# Altium schematic symbol library MPBoard.SchLib: 77 symbols
Pins are listed as number, name and electrical type; pins without a type are passive.

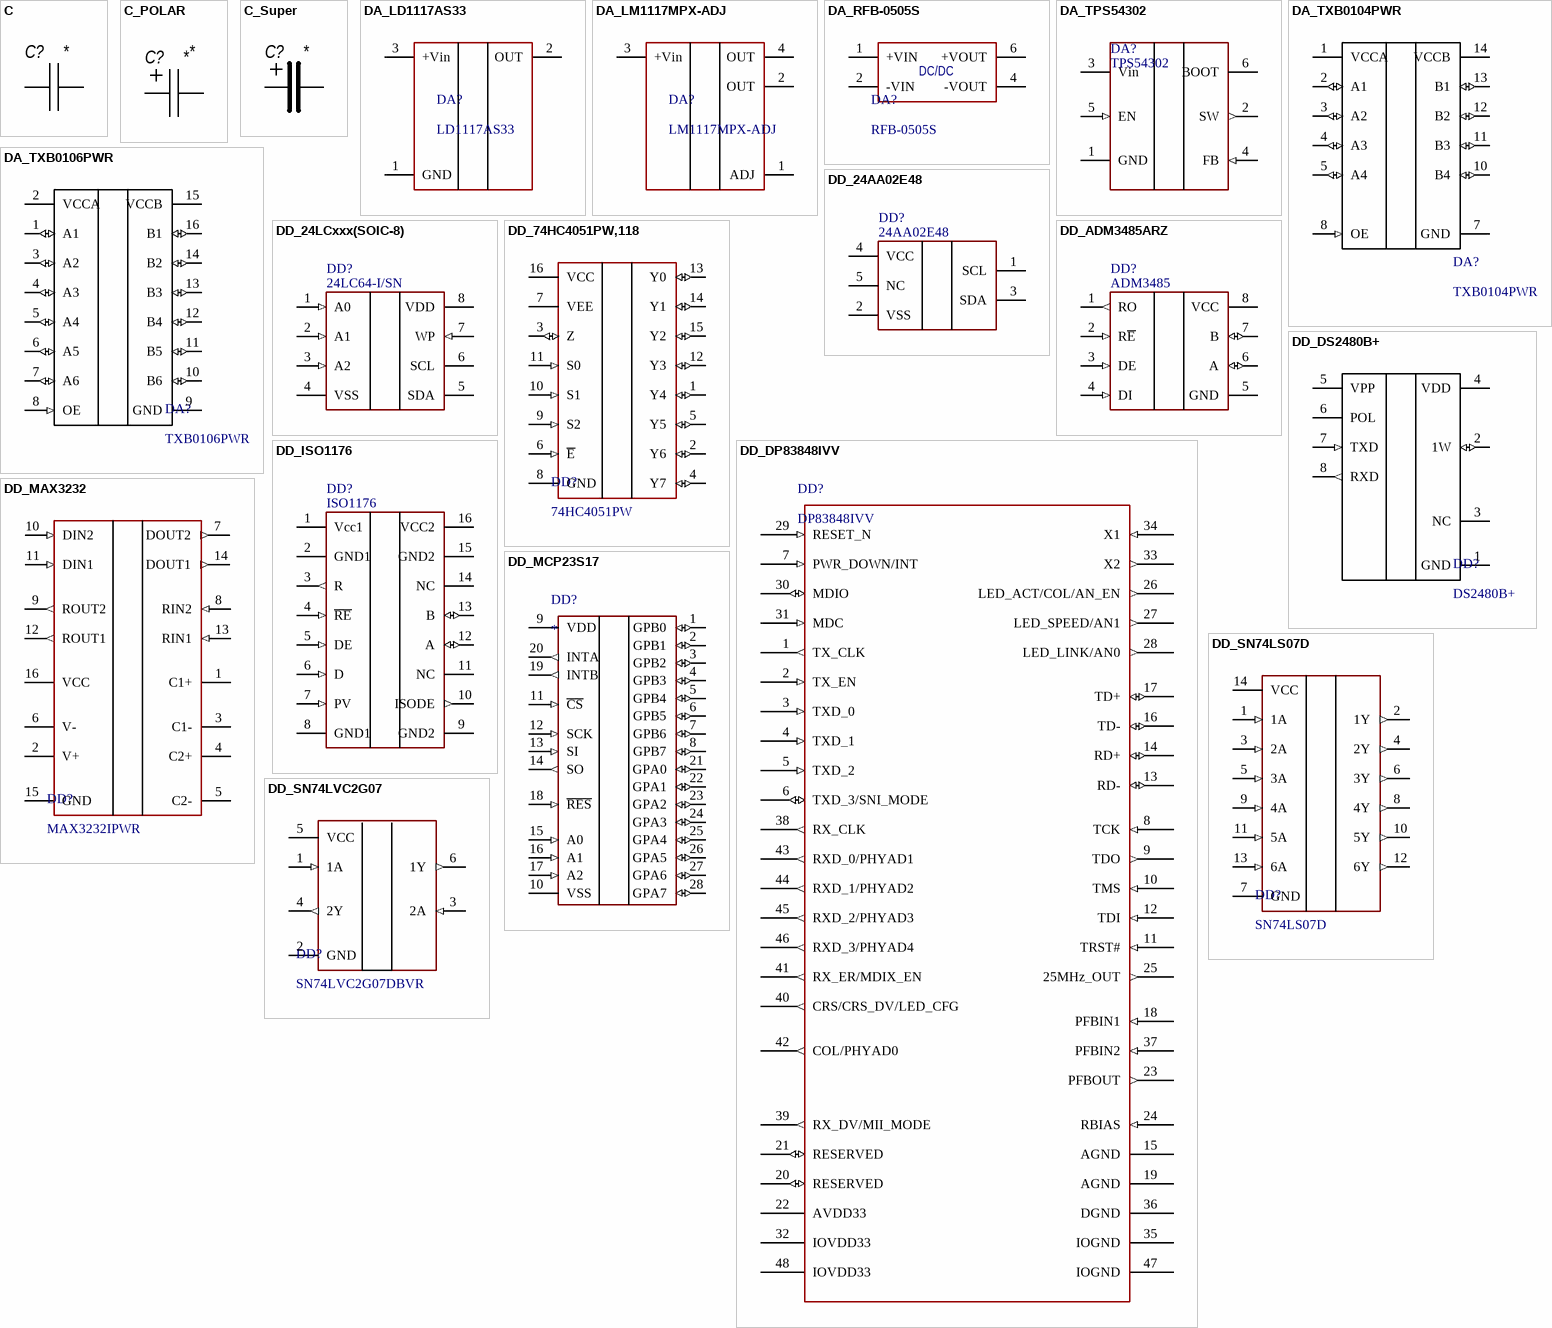
[diagram p0: symbols C to DD_SN74LVC2G07]

## C
designator C?
Конденсатор; ValueDescription: Конденсатор * * * * *; Dielectric: *; Manufacturer: *; Package: *; Tolerance: *; Value: *; ManufacturerPartNumber: *; HelpURL: *; Voltage: *; IPSPartNumber: *; NameRUS: Конденсатор
footprint CAPC0805_H1.0_L (Chip Capacitor, 2-Leads, Body 2,00x1,25mm, IPC High Density)
footprint CAPC0805_H1.0_M (Chip Capacitor, 2-Leads, Body 2,00x1,25mm, IPC Low Density)
footprint CAPC0805_H1.0_N (Chip Capacitor, 2-Leads, Body 2,00x1,25mm, IPC Medium Density)
footprint CAPC1206_H1.2_L (Chip Capacitor, 2-Leads, Body 3,20x1,60mm, IPC High Density)
footprint CAPC1206_H1.2_M (Chip Capacitor, 2-Leads, Body 3,20x1,60mm, IPC Low Density)
footprint CAPC1206_H1.2_N (Chip Capacitor, 2-Leads, Body 3,20x1,60mm, IPC Medium Density)
pins: 1, 2

## C_POLAR
designator C?
Конденсатор полярный; ValueDescription: Конденсатор * * * *; Manufacturer: *; Package: *; Tolerance: *; Value: *; ManufacturerPartNumber: *; HelpURL: *; IPSPartNumber: *; NameRUS: Конденсатор; Voltage: *
footprint CAPTAN_D_L
footprint CAPTAN_D_M
footprint CAPTAN_D_N
footprint CAPTAN_B_L
footprint CAPTAN_B_M
footprint CAPTAN_B_N
footprint CAPMP-3528
footprint CAPAE-103
pins: 1 "POZ", 2 "NEG"

## C_Super
designator C?
Ионистор; MF: *; MFPartNum: *; Voltage: *; Value: *; Package: *; HelpURL: *
footprint SupCAP_32334E3 (VISHAY)
footprint IONISTOR-LS5-D11.5-H12.5
pins: 1 "POZ", 2 "NEG"

## DA_LD1117AS33
designator DA?, comment LD1117AS33
Linear Regulator 3.3V; MF_PartNum: LD1117AS33TR; MF: STMicroelectronics; Package: SOT-223; HelpURL: https://eu.mouser.com/ProductDetail/STMicroelectronics/LD1117AS33TR?qs=C3bf%2FVrkE5CoDDd7wyn%252BaQ%3D%3D
footprint SOT-223 LD1117
pins: 1 GND (power), 2 OUT (power), 3 +Vin (power)

## DA_LM1117MPX-ADJ
designator DA?, comment LM1117MPX-ADJ
Linear Regulator; MF_PartNum: LM1117MPX-ADJ/NOPB; MF: Texas Instruments; Package: SOT-223; HelpURL: https://eu.mouser.com/ProductDetail/onsemi/LM1117MPX-ADJNOPB?qs=DPoM0jnrROUeWsdTeki4bQ%3D%3D; Value: LM1117MPX-ADJ
footprint SOT-223 LM1117
pins: 1 ADJ (power), 2 OUT (power), 3 +Vin (power), 4 OUT (power)

## DA_RFB-0505S
designator DA?, comment RFB-0505S
DC/DC Converter 1W; MF: Recom Power; MFPartNum: RFB-0505S; Package: SIP-7; HelpURL: https://www.chipdip.ru/product0/8005904364
footprint SIP7_RFB_RCP
pins: 1 +VIN (power), 2 -VIN (power), 4 -VOUT (power), 6 +VOUT (power)
text: DC/DC

## DA_TPS54302
designator DA?, comment TPS54302
DC/DC Buck; Manufacturer: TI; ManufacturerPartNumber: TPS54302DDCR; ValueDescription: Микросхема TPS54302 SOT23-6; NameRUS: Микросхема; Value: TPS54302; HelpURL: https://www.ti.com/lit/ds/symlink/tps54302.pdf?HQS=TI-null-null-digikeymode-df-pf-null-wwe&ts=1594294685289; Package: SOT23-6; IPSPartNumber: *
footprint SOT23-6 (YB)
pins: 1 GND (power), 2 SW (out), 3 Vin (power), 4 FB (in), 5 EN (in), 6 BOOT (power)

## DA_TXB0104PWR
designator DA?, comment TXB0104PWR
Bidirectional Voltage - Level Translator; MF: Texas Instruments; MFPartNum: TXB0104PWR; Package: TSSOP-14; HelpURL: https://www.chipdip.ru/product/txb0104pwr-2
footprint TSSOP-14 (YB)
pins: 1 VCCA (power), 2 A1 (io), 3 A2 (io), 4 A3 (io), 5 A4 (io), 7 GND (power), 8 OE (in), 10 B4 (io), 11 B3 (io), 12 B2 (io), 13 B1 (io), 14 VCCB (power)

## DA_TXB0106PWR
designator DA?, comment TXB0106PWR
Bidirectional Voltage - Level Translator; MF: Texas Instruments; MFPartNum: TXB0106PWR; Package: TSSOP-16; HelpURL: https://eu.mouser.com/ProductDetail/?qs=nRD1PKnFC2EFAtrwfAB%2F4Q%3D%3D
footprint TSSOP-16 (YB)
pins: 1 A1 (io), 2 VCCA (power), 3 A2 (io), 4 A3 (io), 5 A4 (io), 6 A5 (io), 7 A6 (io), 8 OE (in), 9 GND (power), 10 B6 (io), 11 B5 (io), 12 B4 (io), 13 B3 (io), 14 B2 (io), 15 VCCB (power), 16 B1 (io)

## DD_24AA02E48
designator DD?, comment 24AA02E48
EEPROM 2K - EUI-48™, I2C; MFPartNum: 24AA02E48T-I/OT; MF: Microchip; ValueDescription: Микросхема 24AA02E48 SOT-23-5; NameRUS: Микросхема; Value: 24AA02E48; HelpURL: https://www.chipdip.by/product0/8018074640; Package: SOT-23-5; Analogue: *
footprint SOT23-5 (YB)
pins: 1 SCL (oc), 2 VSS (power), 3 SDA (oc), 4 VCC (power), 5 NC (power)

## DD_24LCxxx(SOIC-8)
designator DD?, comment 24LC64-I/SN
EEPROM; MF: Microchip; ValueDescription: Микросхема 24LC64-I/SN SOIC-8; NameRUS: Микросхема; MFPartNum: *; Value: 24LC64-I/SN; Package: SOIC-8; Analogue: *
footprint SOIC-8 (YB)
pins: 1 A0 (in), 2 A1 (in), 3 A2 (in), 4 VSS (power), 5 SDA (oc), 6 SCL (oc), 7 WP (in), 8 VDD (power)

## DD_74HC4051PW,118
designator DD?, comment 74HC4051PW
Multiplexer Switch 1:8; MFPartNum: 74HC4051PW,118; MF: Nexperia USA; Package: TSSOP-16; HelpURL: https://eu.mouser.com/ProductDetail/Nexperia/74HC4051PW118?qs=P62ublwmbi9HhBEGmubfjA%3D%3D; Value: 74HC4051PW
footprint TSSOP-16 (YB)
pins: 1 Y4 (io), 2 Y6 (io), 3 Z (io), 4 Y7 (io), 5 Y5 (io), 6 ~{E} (in), 7 VEE (power), 8 GND, 9 S2 (in), 10 S1 (in), 11 S0 (in), 12 Y3 (io), 13 Y0 (io), 14 Y1 (io), 15 Y2 (io), 16 VCC (power)

## DD_ADM3485ARZ
designator DD?, comment ADM3485
RS-485; MFPartNum: ADM3485ARZ; MF: Microchip; Value: ADM3485; Package: SOIC-8; HelpURL: https://www.chipdip.ru/product/adm3485arz
footprint SOIC-8 (YB)
pins: 1 RO (out), 2 R~{E} (in), 3 DE (in), 4 DI (in), 5 GND (power), 6 A (io), 7 B (io), 8 VCC (power)

## DD_DP83848IVV
designator DD?, comment DP83848IVV
Ethernet Physical Layer Transceiver; MF: Texas Instruments; ComponentLink1DescBC: DP83848IDatasheet; ComponentLink2DescA4: DP83848IWebPage; ComponentLink3DescAC: VBH48APackagePage; MFPartNum: DP83848IVV; Package: LQFP48; HelpURL: https://eu.mouser.com/ProductDetail/Texas-Instruments/DP83848IVVX-NOPB?qs=7X5t%252BdzoRHD4ElHViAH6mg%3D%3D; ComponentLink1URL: http//wwwnationalcom/ds/DP/DP83848Ipdf; ComponentLink2URL: http//wwwnationalcom/pf/DP/DP83848Ihtml; ComponentLink3URL: http//wwwnationalcom/packaging/folders/vbh48ahtml
footprint TQFP-48 (YB)
pins: 1 TX_CLK (out), 2 TX_EN (in), 3 TXD_0 (in), 4 TXD_1 (in), 5 TXD_2 (in), 6 TXD_3/SNI_MODE (io), 7 PWR_DOWN/INT (in), 8 TCK (in), 9 TDO (out), 10 TMS (in), 11 TRST# (in), 12 TDI (in), 13 RD- (io), 14 RD+ (io), 15 AGND (power), 16 TD- (io), 17 TD+ (io), 18 PFBIN1 (in), 19 AGND (power), 20 RESERVED (io), 21 RESERVED (io), 22 AVDD33 (power), 23 PFBOUT (out), 24 RBIAS (in), 25 25MHz_OUT (out), 26 LED_ACT/COL/AN_EN (out), 27 LED_SPEED/AN1 (out), 28 LED_LINK/AN0 (out), 29 RESET_N (in), 30 MDIO (io), 31 MDC (in), 32 IOVDD33 (power), 33 X2 (out), 34 X1 (in), 35 IOGND (power), 36 DGND (power), 37 PFBIN2 (in), 38 RX_CLK (out), 39 RX_DV/MII_MODE (out), 40 CRS/CRS_DV/LED_CFG (out), 41 RX_ER/MDIX_EN (out), 42 COL/PHYAD0 (out), 43 RXD_0/PHYAD1 (out), 44 RXD_1/PHYAD2 (out), 45 RXD_2/PHYAD3 (out), 46 RXD_3/PHYAD4 (out), 47 IOGND (power), 48 IOVDD33 (power)

## DD_DS2480B+
designator DD?, comment DS2480B+
UART to 1-Wire interface; MF: Analog Devices Inc; MFPartNum: DS2480B+; Package: SOIC-8; HelpURL: https://eu.mouser.com/ProductDetail/Maxim-Integrated/DS2480B%2b?qs=0Y9aZN%252BMVCWX5WElPoGOEQ%3D%3D
footprint SOIC-8 (YB)
pins: 1 GND (power), 2 1W (io), 3 NC, 4 VDD (power), 5 VPP (power), 6 POL, 7 TXD (in), 8 RXD (out)

## DD_ISO1176
designator DD?, comment ISO1176
Isolated RS-485; Manufacturer: TI; ManufacturerPartNumber: ISO1176DWR; ValueDescription: Микросхема ISO1176 SOIC-16; NameRUS: Микросхема; Value: ISO1176; HelpURL: https://www.ti.com/lit/ds/symlink/iso1176.pdf?HQS=TI-null-null-digikeymode-df-pf-null-wwe&ts=1594111028602; Package: SOIC-16; IPSPartNumber: *
footprint SOIC-16 W (YB)
pins: 1 Vcc1 (power), 2 GND1 (power), 3 R (out), 4 ~{RE} (in), 5 DE (in), 6 D (in), 7 PV (in), 8 GND1 (power), 9 GND2 (power), 10 ISODE (out), 11 NC, 12 A (io), 13 B (io), 14 NC, 15 GND2 (power), 16 VCC2 (power)

## DD_MAX3232
designator DD?, comment MAX3232IPWR
RS-232; Manufacturer: Texas Instruments; HelpURL: https://eu.mouser.com/ProductDetail/Texas-Instruments/MAX3232IPWR?qs=q2XTDbzbm6BbCKEnjxJsdA%3D%3D; ManufacturerPartNumber: MAX3232IPWR; Package: TSSOP-16; Value: MAX3232IPWR
footprint TSSOP-16 (YB)
pins: 1 C1+, 2 V+ (power), 3 C1-, 4 C2+, 5 C2-, 6 V- (power), 7 DOUT2 (out), 8 RIN2 (in), 9 ROUT2 (out), 10 DIN2 (in), 11 DIN1 (in), 12 ROUT1 (out), 13 RIN1 (in), 14 DOUT1 (out), 15 GND (power), 16 VCC (power)

## DD_MCP23S17
designator DD?
I/O Expander 16 SPI; MFPartNum: MCP23S17; MF: Microchip; Package: SOIC-28; HelpURL: https://www.chipdip.ru/product/mcp23s17-e-so
footprint SOIC-28
pins: 1 GPB0 (io), 2 GPB1 (io), 3 GPB2 (io), 4 GPB3 (io), 5 GPB4 (io), 6 GPB5 (io), 7 GPB6 (io), 8 GPB7 (io), 9 VDD (power), 10 VSS (power), 11 ~{CS} (in), 12 SCK (in), 13 SI (in), 14 SO (out), 15 A0 (in), 16 A1 (in), 17 A2 (in), 18 ~{RES} (in), 19 INTB (out), 20 INTA (out), 21 GPA0 (io), 22 GPA1 (io), 23 GPA2 (io), 24 GPA3 (io), 25 GPA4 (io), 26 GPA5 (io), 27 GPA6 (io), 28 GPA7 (io)

## DD_SN74LS07D
designator DD?, comment SN74LS07D
6-ch, 4.75_5.25V bipolar buffers with OC outputs; MF: Texas Instruments; MFPartNum: SN74LS07D; Package: SOIC-14; HelpURL: https://www.chipdip.by/product/sn74ls07d
footprint SOIC-14 (YB)
pins: 1 1A (in), 2 1Y (out), 3 2A (in), 4 2Y (out), 5 3A (in), 6 3Y (out), 7 GND (power), 8 4Y (out), 9 4A (in), 10 5Y (out), 11 5A (in), 12 6Y (out), 13 6A (in), 14 VCC (power)

## DD_SN74LVC2G07
designator DD?, comment SN74LVC2G07DBVR
Dual Buffer (Open-Drain); MF: Texas Instruments; Package: SOT-23-6; MFPartNum: SN74LVC2G07DBVR; Value: SN74LVC2G07DBVR; HelpURL: https://eu.mouser.com/ProductDetail/Texas-Instruments/SN74LVC2G07DBVR?qs=FM6NhYOeeBWEr7ZhSeFsUg%3D%3D
footprint SOT23-6 (YB)
pins: 1 1A (in), 2 GND (power), 3 2A (in), 4 2Y (out), 5 VCC (power), 6 1Y (out)

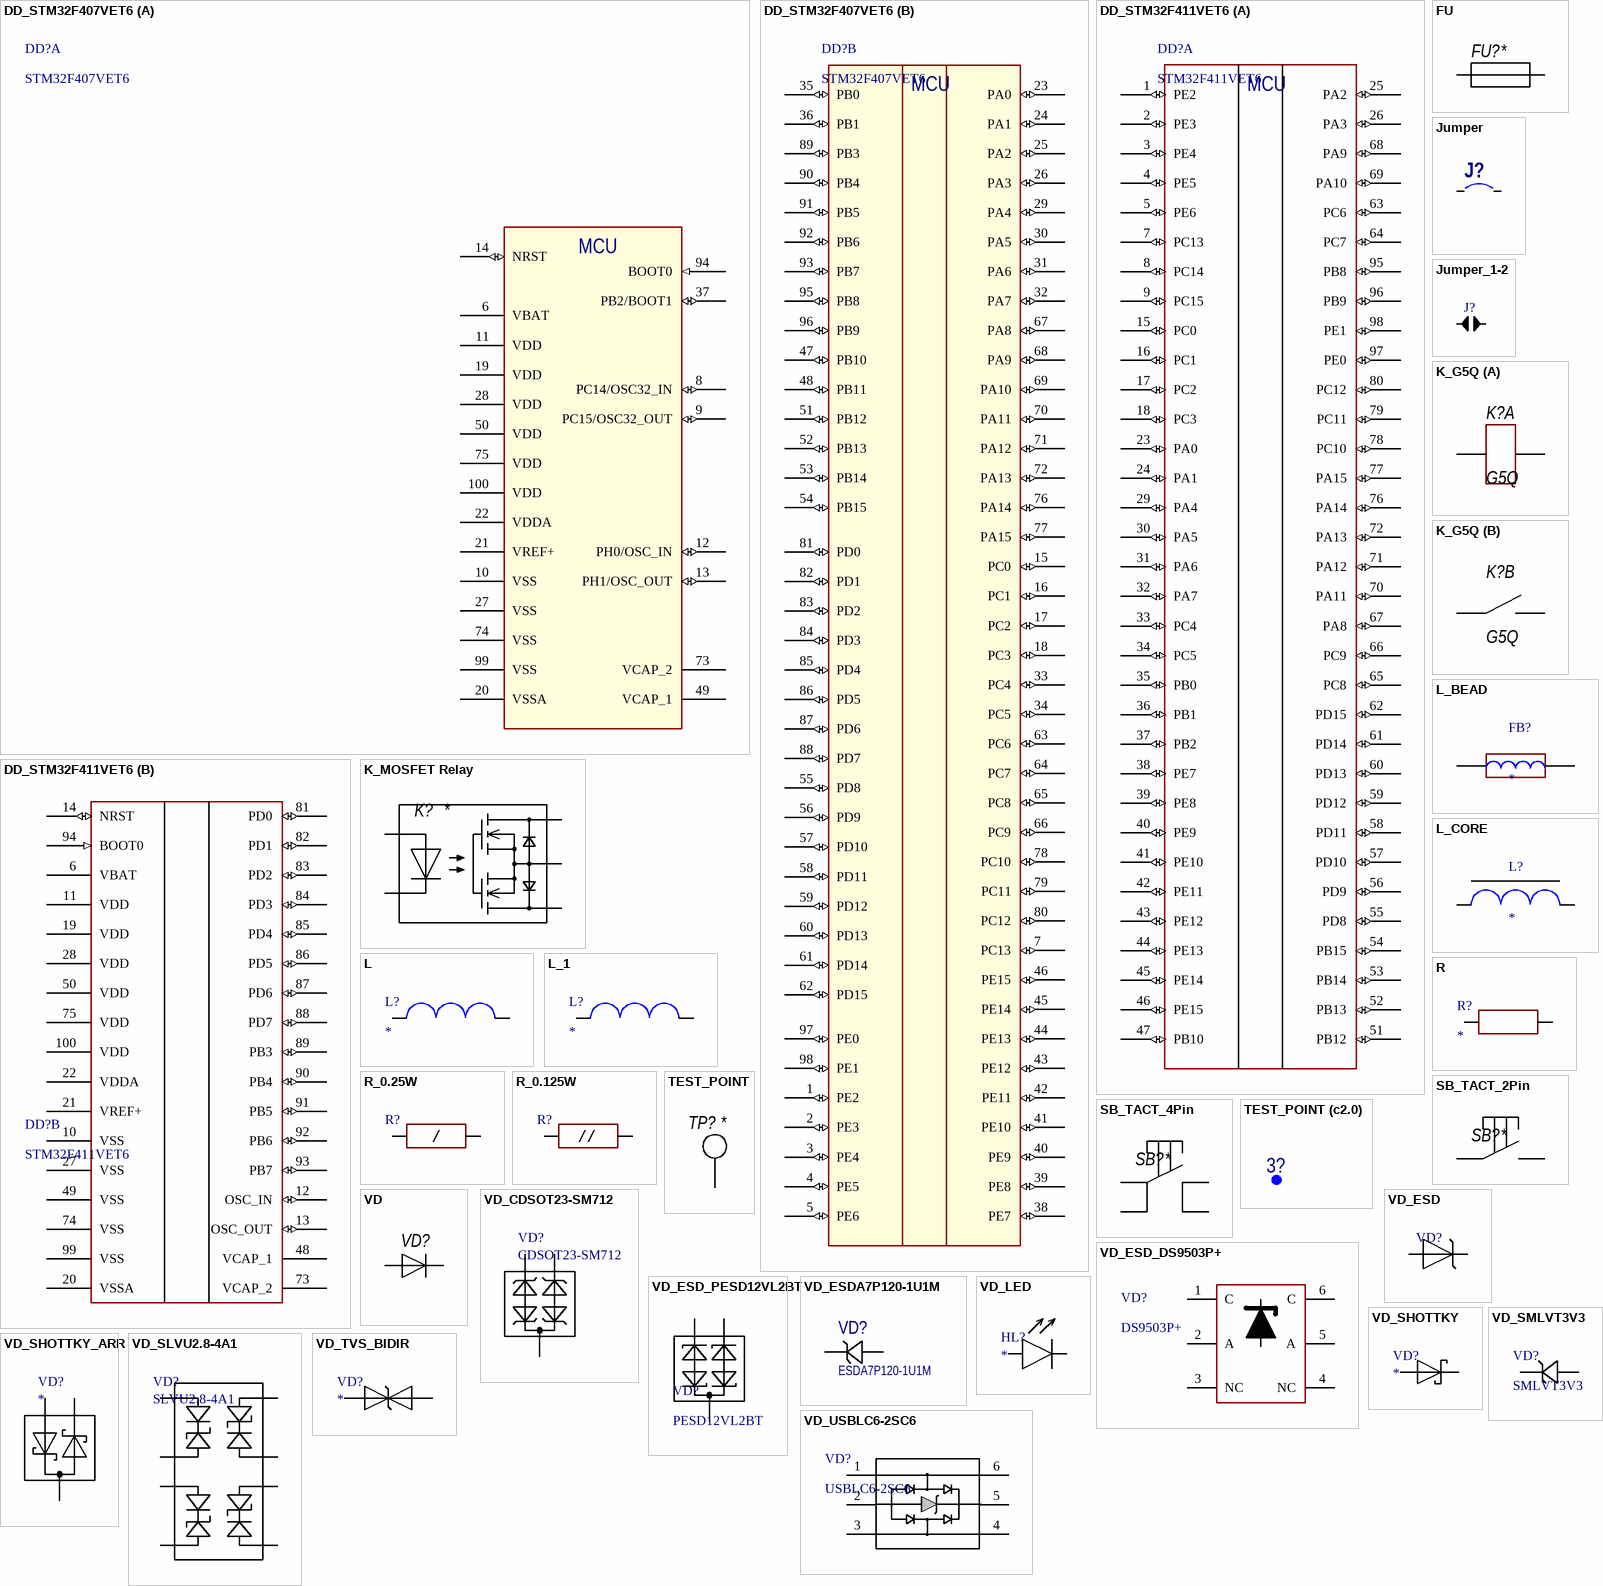
[diagram p1: symbols DD_STM32F407VET6 to VD_USBLC6-2SC6]

## DD_STM32F407VET6
designator DD?, comment STM32F407VET6
MCU; MF: STMicroelectronics; MFPartNum: STM32F407VET6; Package: LQFP100; HelpURL: https://eu.mouser.com/ProductDetail/STMicroelectronics/STM32F407VET6?qs=Z8%252BeY1k3TIJFAMMqSR%252BGtw%3D%3D
footprint LQFP100-14x14mm FHS (For Hand Solder)
footprint TQFP-100 (YB, For Hand Solder)
part A pins: 6 VBAT (power), 8 PC14/OSC32_IN (io), 9 PC15/OSC32_OUT (io), 10 VSS (power), 11 VDD (power), 12 PH0/OSC_IN (io), 13 PH1/OSC_OUT (io), 14 NRST (io), 19 VDD (power), 20 VSSA (power), 21 VREF+ (power), 22 VDDA (power), 27 VSS (power), 28 VDD (power), 37 PB2/BOOT1 (io), 49 VCAP_1 (power), 50 VDD (power), 73 VCAP_2 (power), 74 VSS (power), 75 VDD (power), 94 BOOT0 (in), 99 VSS (power), 100 VDD (power)
part B pins: 1 PE2 (io), 2 PE3 (io), 3 PE4 (io), 4 PE5 (io), 5 PE6 (io), 7 PC13 (io), 15 PC0 (io), 16 PC1 (io), 17 PC2 (io), 18 PC3 (io), 23 PA0 (io), 24 PA1 (io), 25 PA2 (io), 26 PA3 (io), 29 PA4 (io), 30 PA5 (io), 31 PA6 (io), 32 PA7 (io), 33 PC4 (io), 34 PC5 (io), 35 PB0 (io), 36 PB1 (io), 38 PE7 (io), 39 PE8 (io), 40 PE9 (io), 41 PE10 (io), 42 PE11 (io), 43 PE12 (io), 44 PE13 (io), 45 PE14 (io), 46 PE15 (io), 47 PB10 (io), 48 PB11 (io), 51 PB12 (io), 52 PB13 (io), 53 PB14 (io), 54 PB15 (io), 55 PD8 (io), 56 PD9 (io), 57 PD10 (io), 58 PD11 (io), 59 PD12 (io), 60 PD13 (io), 61 PD14 (io), 62 PD15 (io), 63 PC6 (io), 64 PC7 (io), 65 PC8 (io), 66 PC9 (io), 67 PA8 (io), 68 PA9 (io), 69 PA10 (io), 70 PA11 (io), 71 PA12 (io), 72 PA13 (io), 76 PA14 (io), 77 PA15 (io), 78 PC10 (io), 79 PC11 (io), 80 PC12 (io), 81 PD0 (io), 82 PD1 (io), 83 PD2 (io), 84 PD3 (io), 85 PD4 (io), 86 PD5 (io), 87 PD6 (io), 88 PD7 (io), 89 PB3 (io), 90 PB4 (io), 91 PB5 (io), 92 PB6 (io), 93 PB7 (io), 95 PB8 (io), 96 PB9 (io), 97 PE0 (io), 98 PE1 (io)

## DD_STM32F411VET6
designator DD?, comment STM32F411VET6
MCU; MF: STMicroelectronics; MFPartNum: STM32F411VET6; Package: LQFP100; HelpURL: https://eu.mouser.com/ProductDetail/STMicroelectronics/STM32F411VET6?qs=9MuLHSklicoabY0ZTDt%2FqQ%3D%3D
footprint LQFP100-14x14mm
footprint TQFP-100 (YB, For Hand Solder)
part A pins: 1 PE2 (io), 2 PE3 (io), 3 PE4 (io), 4 PE5 (io), 5 PE6 (io), 7 PC13 (io), 8 PC14 (io), 9 PC15 (io), 15 PC0 (io), 16 PC1 (io), 17 PC2 (io), 18 PC3 (io), 23 PA0 (io), 24 PA1 (io), 25 PA2 (io), 26 PA3 (io), 29 PA4 (io), 30 PA5 (io), 31 PA6 (io), 32 PA7 (io), 33 PC4 (io), 34 PC5 (io), 35 PB0 (io), 36 PB1 (io), 37 PB2 (io), 38 PE7 (io), 39 PE8 (io), 40 PE9 (io), 41 PE10 (io), 42 PE11 (io), 43 PE12 (io), 44 PE13 (io), 45 PE14 (io), 46 PE15 (io), 47 PB10 (io), 51 PB12 (io), 52 PB13 (io), 53 PB14 (io), 54 PB15 (io), 55 PD8 (io), 56 PD9 (io), 57 PD10 (io), 58 PD11 (io), 59 PD12 (io), 60 PD13 (io), 61 PD14 (io), 62 PD15 (io), 63 PC6 (io), 64 PC7 (io), 65 PC8 (io), 66 PC9 (io), 67 PA8 (io), 68 PA9 (io), 69 PA10 (io), 70 PA11 (io), 71 PA12 (io), 72 PA13 (io), 76 PA14 (io), 77 PA15 (io), 78 PC10 (io), 79 PC11 (io), 80 PC12 (io), 95 PB8 (io), 96 PB9 (io), 97 PE0 (io), 98 PE1 (io)
part B pins: 6 VBAT (power), 10 VSS (power), 11 VDD (power), 12 OSC_IN (io), 13 OSC_OUT (io), 14 NRST (io), 19 VDD (power), 20 VSSA (power), 21 VREF+ (power), 22 VDDA (power), 27 VSS (power), 28 VDD (power), 48 VCAP_1 (power), 49 VSS (power), 50 VDD (power), 73 VCAP_2 (power), 74 VSS (power), 75 VDD (power), 81 PD0 (io), 82 PD1 (io), 83 PD2 (io), 84 PD3 (io), 85 PD4 (io), 86 PD5 (io), 87 PD6 (io), 88 PD7 (io), 89 PB3 (io), 90 PB4 (io), 91 PB5 (io), 92 PB6 (io), 93 PB7 (io), 94 BOOT0 (in), 99 VSS (power), 100 VDD (power)

## FU
designator FU?
Предохранитель; ValueDescription: Предохранитель * *; Value: *; Manufacturer: *; ManufacturerPartNumber: *; HelpURL: *; IPSPartNumber: *; NameRus: Предохранитель
footprint FU_0ZRS0500FF1A
footprint FU_0751.0052
footprint FU_2920LXX (Chip PTC Resettable Fuses)
footprint FUSE HOLDERS B 5X20
footprint CAP-DISC-LS5.1-D15.36-W3.1
pins: 1 "Pin 1", 2 "Pin 2"

## Jumper
designator J?, comment Jumper for PCB  (value not drawn)
Перемычка на плату
footprint JUMPER-SMD
pins: 1, 2

## Jumper_1-2
designator J?, comment SP_1-2  (value not drawn)
Перемычка 2 контакта
pins: 1, 2

## K_G5Q
designator K?, comment G5Q
Реле; Manufacturer: Omron; ManufacturerPartNumber: G5Q-1A4 DC24; Coil Voltage: 24 В; Current: 10 A; ValueDescription: Реле G5Q-1A4 DC24 24 В 10 A; Value: G5Q; HelpURL: https://omronfs.omron.com/en_US/ecb/products/pdf/en-g5q.pdf; IPSPartNumber: *; NameRUS: Реле
footprint RELAY_G5Q
part A pins: A1, A2
part B pins: COM, NO

## K_MOSFET Relay
designator K?
Твердотельное реле; ValueDescription: Твердотельное реле * *; Value: *; Manufacturer: *; ManufacturerPartNumber: *; Package: *; IPSPartNumber: *; NameRUS: Твердотельное реле; HelpURL: *
footprint K_G3VM-41ER
pins: 1, 2, 4, 5, 6

## L
designator L?
Дроссель; ValueDescription: Дроссель * * * *; MF: *; MFPartNum: *; AddDescription: *; Tolerance: *; Value: *; HelpURL: *; NameRUS: Дроссель; IPSPartNumber: *; Package: *
footprint LQH66SN_03L (SMD 6.3x6.3x5)
footprint IND-1812
pins: 1, 2

## L_1
designator L?
Дроссель; Manufacturer: *; ManufacturerPartNumber: *; Package: *; Tolerance: *; Value: *; HelpURL: *; IPSPartNumber: *; ValueDescription: =NameRUS+' '+Value+' '+Tolerance+' '+AddDescription+' '+Package; NameRUS: Дроссель
footprint LQH66SN_03L (SMD 6.3x6.3x5)
pins: 1, 2

## L_BEAD
designator FB?
Ферритовая бусина; MF: *; MFPartNum: *; Value: *; Package: *; HelpURL: *
footprint INDC0805_L (Chip Inductor, 2-Leads, Body 2,00x1,25mm, IPC High Density)
footprint INDC0805_M (Chip Inductor, 2-Leads, Body 2,00x1,25mm, IPC Low Density)
footprint INDC0805_N (Chip Inductor, 2-Leads, Body 2,00x1,25mm, IPC Medium Density)
footprint IND-1206 bead (Bead)
pins: 1, 2

## L_CORE
designator L?
Индуктивность; NameRUS: Дроссель; Manufacturer: *; ManufacturerPartNumber: *; AddDescription: *; Tolerance: *; Value: *; HelpURL: *; IPSPartNumber: *; ValueDescription: =NameRUS+' '+Value+' '+Tolerance+' '+AddDescription+' '+Package
footprint IND_IHLP2525 (SMD inductor, 6.47x6.47 mm)
footprint IND_WE-TIS_1111 (THT Shielded Radial Leaded Wire Wound Inductor, body diameter 11mm)
pins: 1, 2

## R
designator R?
Резистор; ValueDescription: Резистор * * *; Manufacturer: *; Package: *; Tolerance: *; Value: *; ManufacturerPartNumber: *; HelpURL: *; IPSPartNumber: *; NameRUS: Резистор
footprint RES-0805
footprint RES-1206
pins: 1 "Pin 1", 2 "Pin 2"

## R_0.25W
designator R?
Резистор 0.25 W; HelpURL: *; IPSPartNumber: *; ValueDescription: Резистор; NameRUS: Резистор
footprint RESC1206_L (Chip Resistor, 2-Leads, Body 3,13x1,55mm, IPC High Density)
footprint RESC1206_M (Chip Resistor, 2-Leads, Body 3,13x1,55mm, IPC Low Density)
footprint RESC1206_N (Chip Resistor, 2-Leads, Body 3,13x1,55mm, IPC Medium Density)
footprint RES-1206
pins: 1 "Pin 1", 2 "Pin 2"

## R_0.125W
designator R?
Резистор 0.125 W; HelpURL: *; IPSPartNumber: *; ValueDescription: Резистор; NameRUS: Резистор
footprint RESC0805_L (Chip Resistor, 2-Leads, Body 2,00x1,25mm, IPC High Density)
footprint RESC0805_M (Chip Resistor, 2-Leads, Body 2,00x1,25mm, IPC Low Density)
footprint RESC0805_N (Chip Resistor, 2-Leads, Body 2,00x1,25mm, IPC Medium Density)
footprint RES-0805
pins: 1 "Pin 1", 2 "Pin 2"

## SB_TACT_2Pin
designator SB?
Кнопка тактовая; ValueDescription: Кнопка тактовая *; Value: *; Manufacturer: *; ManufacturerPartNumber: *; IPSPartNumber: *; NameRUS: Кнопка тактовая; HelpURL: *
footprint B3U-1000P
pins: 1, 2

## SB_TACT_4Pin
designator SB?
Кнопка тактовая; ValueDescription: Кнопка тактовая *; Value: *; Manufacturer: *; ManufacturerPartNumber: *; IPSPartNumber: *; NameRUS: Кнопка тактовая; HelpURL: *
pins: 1, 2, 3, 4

## TEST_POINT
designator TP?  (no BOM)
Test Point; Name: *
footprint TP_1.5 (Test Point 1.5 mm)
pins: 1

## TEST_POINT (c2.0)
designator 3?, comment c2.0  (value not drawn)  (no BOM)
TEST_POINT (c2.0)
footprint TP_C2.0 (TEST POINT C2.0)
pins: 1

## VD
designator VD?
Диод Выпрямительный; ValueDescription: Диод выпрямительный; NameRUS: Диод выпрямительный
footprint SOD-323 (SODFL, 2-Leads, Body 1,60x3,75mm, IPC Medium Density)
pins: 1 "Anode", 2 "Cathode"

## VD_CDSOT23-SM712
designator VD?, comment CDSOT23-SM712
TVS сборка для RS-485; Manufacturer: BOURNS; ValueDescription: Супрессор CDSOT23-SM712 SOT-23; NameRUS: Супрессор; ManufacturerPartNumber: CDSOT23-SM712; HelpURL: https://www.bourns.com/docs/Product-Datasheets/CDSOT23-SM712.pdf; Value: CDSOT23-SM712; Package: SOT-23; IPSPartNumber: *
footprint SOT23 (YB, 3-Leads, Body 3,0x2,6mm (max), Pitch 0,95mm, IPC Medium Density)
pins: 1, 2, 3

## VD_ESD
designator VD?
ESD диод однонаправленный; Voltage: *
footprint SOD-523 (YB)
footprint QFN 1610 (YB)
pins: 1 "Anode", 2 "Cathode"

## VD_ESD_DS9503P+
designator VD?, comment DS9503P+
TVS for 1-wire; MF: Analog Devices Inc; Value: DS9503P+; MFPartNum: DS9503P+; HelpURL: https://eu.mouser.com/ProductDetail/Maxim-Integrated/DS9503P%2b?qs=0Y9aZN%252BMVCWzGhd4t%252BRUgA%3D%3D; Package: TSOC-6
footprint TSOC-6 (YB)
pins: 1 C, 2 A, 3 NC, 4 NC, 5 A, 6 C

## VD_ESD_PESD12VL2BT
designator VD?, comment PESD12VL2BT
ESD сборка для RS-232; MFPartNum: PESD12VL2BT,215; MF: Nexperia; Package: SOT-23; HelpURL: https://eu.mouser.com/ProductDetail/Nexperia/PESD12VL2BT215?qs=LOCUfHb8d9uAuKXx9HIYFw%3D%3D
footprint SOT23 (YB, 3-Leads, Body 3,0x2,6mm (max), Pitch 0,95mm, IPC Medium Density)
pins: 1, 2, 3

## VD_ESDA7P120-1U1M
designator VD?, comment ESDA7P120-1U1M
Supressor 5.5V; Manufacturer: STMicroelectronics; ManufacturerPartNumber: ESDA7P120-1U1M; Package: QFN1610; HelpURL: https://www.chipdip.by/product0/8008316773; Voltage: 5.5V
footprint QFN 1610 (YB)
pins: 1, 2

## VD_LED
designator HL?
Светодиод; ValueDescription: Светодиод * *; Manufacturer: *; ManufacturerPartNumber: *; HelpURL: *; Value: *; Package: *; IPSPartNumber: *; NameRUS: Светодиод
footprint CH0805LB
footprint CH0805LG
footprint CH0805LR
footprint CH0805LY
pins: 1, 2

## VD_SHOTTKY
designator VD?
Диод Шоттки; ValueDescription: Диод Шоттки * *; Manufacturer: *; ManufacturerPartNumber: *; HelpURL: *; Value: *; Package: *; IPSPartNumber: *; NameRUS: Диод Шоттки
footprint DO-214AC (Molded Diode, 2-Leads, Body 4,60x2,79mm, IPC Medium Density)
footprint SOD-123 (SODFL, 2-Leads, Body 1,60x3,75mm, IPC Medium Density)
pins: 1 "Anode", 2 "Cathode"

## VD_SHOTTKY_ARR
designator VD?
Сборка Шоттки; ValueDescription: Сборка диод Шоттки * *; NameRUS: Сборка диод Шоттки; Manufacturer: *; ManufacturerPartNumber: *; HelpURL: *; Value: *; Package: *; IPSPartNumber: *
footprint SOT23 (SOT23, 3-Leads, Body 3,0x2,6mm (max), Pitch 0,95mm, IPC Medium Density)
pins: 1, 2, 3

## VD_SLVU2.8-4A1
designator VD?, comment SLVU2.8-4A1
TVS сборка для Ethernet; Manufacturer: ST; ValueDescription: Супрессор SLVU2.8-4A1 SOIC-8; NameRUS: Супрессор; ManufacturerPartNumber: SLVU2.8-4A1; HelpURL: https://www.st.com/resource/en/datasheet/slvu2.8.pdf; Value: SLVU2.8-4A1; Package: SOIC-8; IPSPartNumber: *
footprint SOIC-8 (YB)
pins: 1, 2, 3, 4, 5, 6, 7, 8

## VD_SMLVT3V3
designator VD?, comment SMLVT3V3
Transil 3.3V; Manufacturer: STMicroelectronics; ManufacturerPartNumber: SMLVT3V3; Package: DO-214; HelpURL: https://www.chipdip.by/product0/8001778448; Voltage: 3.3V
footprint DO-214_SMLVT3V3
footprint DIODE SMB
pins: 1, 2

## VD_TVS_BIDIR
designator VD?
Супрессор; ValueDescription: Супрессор * *; Manufacturer: *; ManufacturerPartNumber: *; HelpURL: *; Value: *; Package: *; IPSPartNumber: *; NameRUS: Супрессор
footprint DO-214AA (Molded Diode, 2-Leads, Body 4.31x3.62mm, IPC Medium Density)
pins: 1 "Anode", 2 "Cathode"

## VD_USBLC6-2SC6
designator VD?, comment USBLC6-2SC6
TVS diode USB/SPI/I2C; MF: STMicroelectronics; MFPartNum: USBLC6-2SC6; Package: SOT-23-6; HelpURL: https://www.chipdip.ru/product/usblc6-2sc6
footprint SOT23-6 (YB)
pins: 1, 2, 3, 4, 5, 6

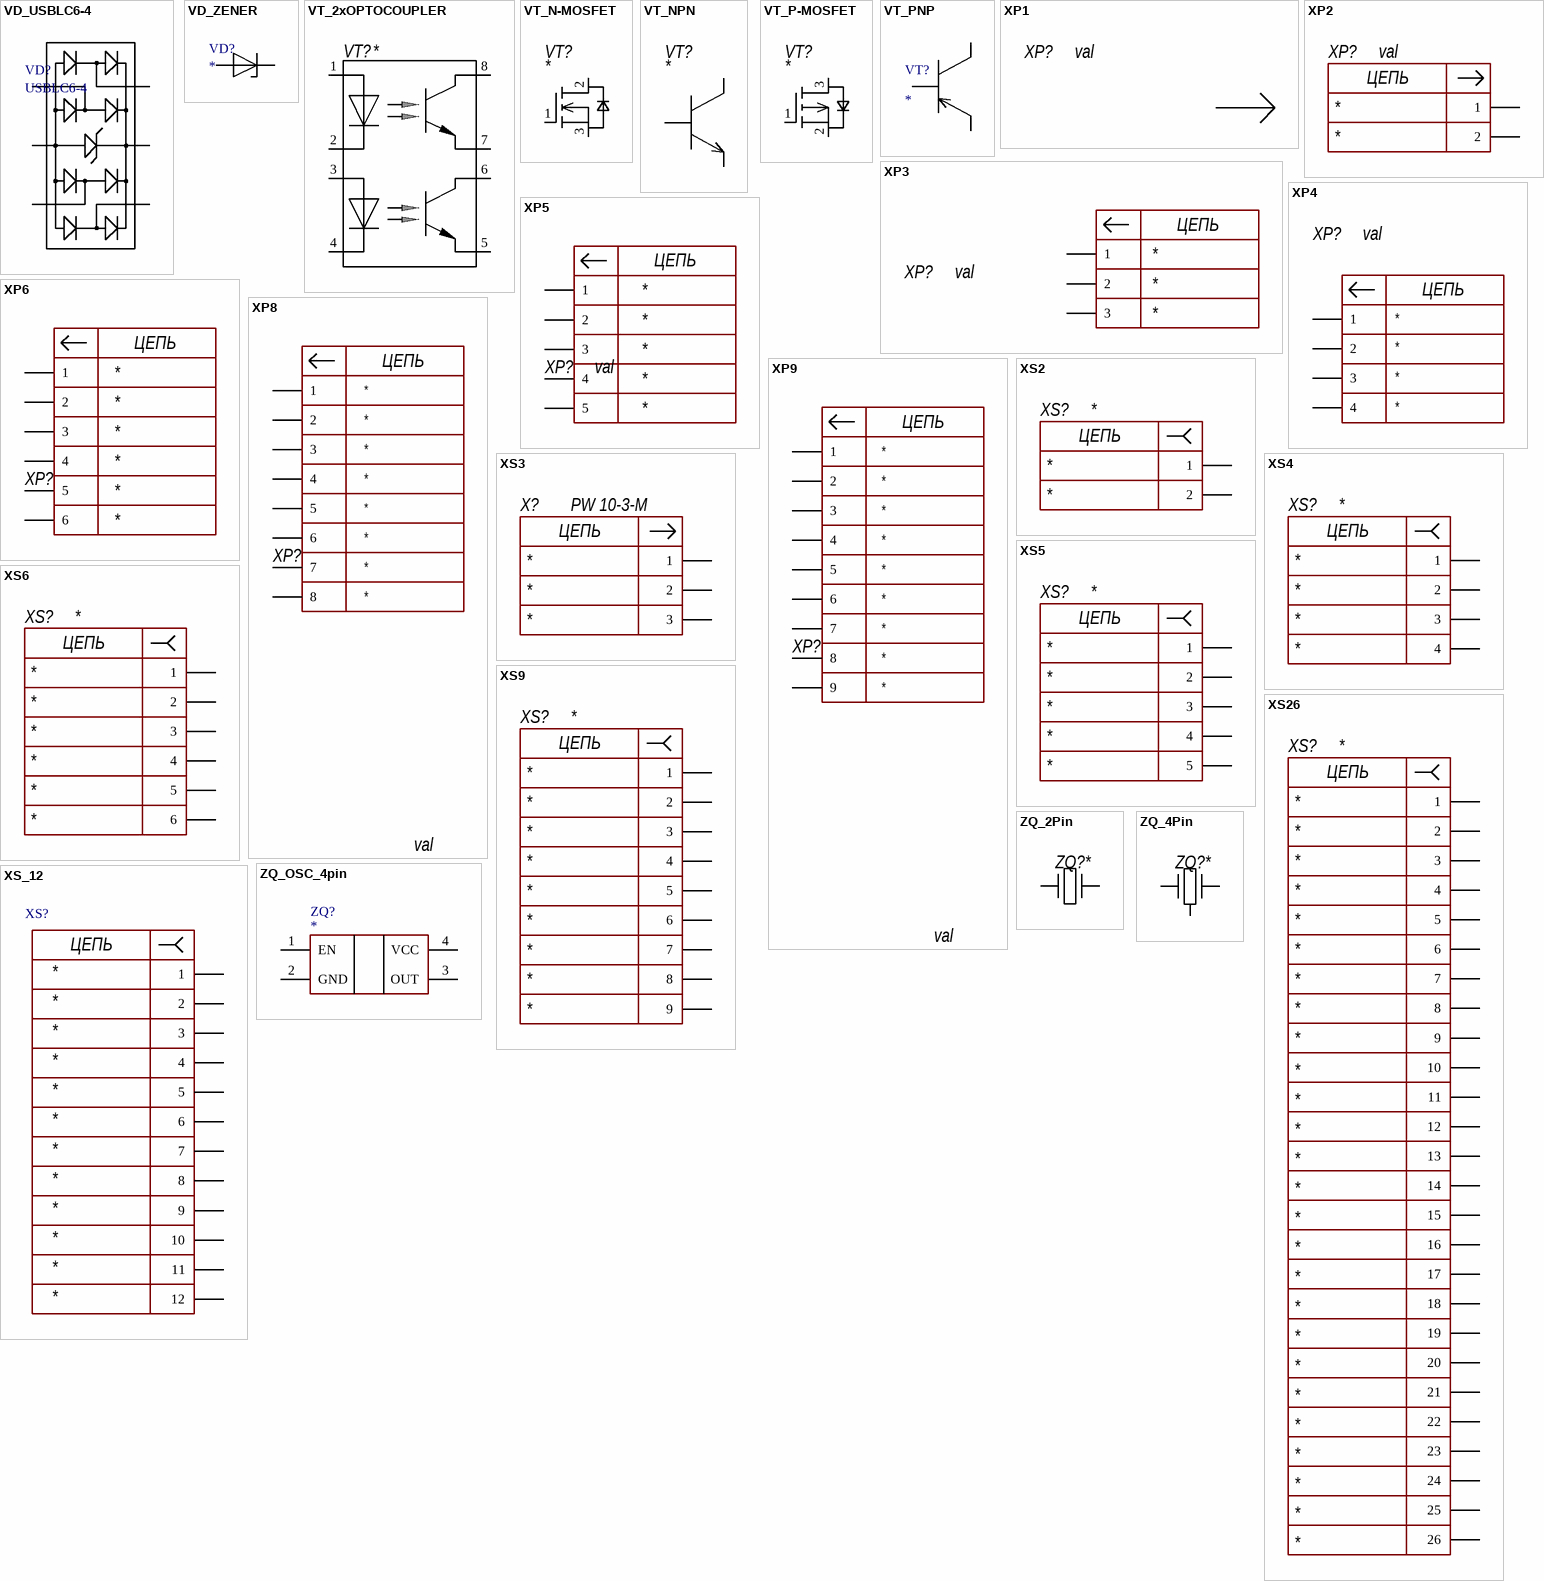
[diagram p2: symbols VD_USBLC6-4 to ZQ_OSC_4pin]

## VD_USBLC6-4
designator VD?, comment USBLC6-4
TVS сборка для Ethernet; Manufacturer: ST; ValueDescription: Супрессор USBLC6-4 SOT-23-6; NameRUS: Супрессор; ManufacturerPartNumber: USBLC6-4; HelpURL: https://www.st.com/resource/en/datasheet/usblc6-4.pdf; Value: USBLC6-4; Package: SOT-23-6; IPSPartNumber: *
footprint SOT23-6 (YB)
pins: 1, 2, 3, 4, 5, 6

## VD_ZENER
designator VD?
Стабилитрон; ValueDescription: Стабилитрон * *; Manufacturer: *; ManufacturerPartNumber: *; HelpURL: *; Value: *; Package: *; IPSPartNumber: *; NameRUS: Стабилитрон
footprint SOD-123 (SODFL, 2-Leads, Body 1,60x3,75mm, IPC Medium Density)
pins: 1 "Anode", 2 "Cathode"

## VT_2xOPTOCOUPLER
designator VT?
Оптопара; MF: *; MFPartNum: *; Package: *; HelpURL: *
footprint SOIC-8 (YB)
pins: 1, 2, 3, 4, 5, 6, 7, 8

## VT_N-MOSFET
designator VT?
N-MOSFET; MF: *; MFPartNum: *; Voltage: *; Current: *; Package: *; HelpURL: *
footprint SOT23 (SOT23, 3-Leads, Body 3,0x2,6mm (max), Pitch 0,95mm, IPC Medium Density)
footprint TO220S inline
pins: 1 G "Gate", 2 D "Drain", 3 S "Source"

## VT_NPN
designator VT?
NPN транзистор; NameRUS: NPN биполярный транзистор; ValueDescription: NPN биполярный транзистор * * * *; HelpURL: *; Value: *; IPSPartNumber: *; Manufacturer: *; ManufacturerPartNumber: *; Voltage: *; Current: *; Package: *
footprint SOT23 (SOT23, 3-Leads, Body 3,0x2,6mm (max), Pitch 0,95mm, IPC Medium Density)
pins: 1 B "Base", 2 E "Emitter", 3 C "Collector"

## VT_P-MOSFET
designator VT?
P-MOSFET; MF: *; MFPartNum: *; Voltage: *; Current: *; Package: *; HelpURL: *
footprint SOT23 (SOT23, 3-Leads, Body 3,0x2,6mm (max), Pitch 0,95mm, IPC Medium Density)
footprint TO220S inline
pins: 1 G "Gate", 2 S "Source", 3 D "Drain"

## VT_PNP
designator VT?
PNP транзистор; NameRUS: PNP биполярный транзистор; ValueDescription: PNP биполярный транзистор * * * *; HelpURL: *; Value: *; IPSPartNumber: *; Manufacturer: *; ManufacturerPartNumber: *; Voltage: *; Current: *; Package: *
footprint SOT23 [YB] (SOT23, 3-Leads, Body 3,0x2,6mm (max), Pitch 0,95mm, IPC Medium Density)
pins: 1 B "Base", 2 E "Emitter", 3 C "Collector"

## XP1
designator XP?, comment val
Клемма папа; MF: *; MFPartNum: *; HelpURL: *; Value: val; Package: *
footprint PLS-01-smd
footprint PCB TAB 4
pins: 1

## XP2
designator XP?, comment val
вилка 2 контакта; ValueDescription: Разъем вилка val; NameRUS: Разъем вилка; Manufacturer: *; ManufacturerPartNumber: *; HelpURL: *; IPSPartNumber: *; Value: val; NET1: *; NET2: *
footprint CONN_KLS8-01128-PC-250 (KLS)
pins: 1, 2
text: ЦЕПЬ

## XP3
designator XP?, comment val
вилка 3 контакта; Manufacturer: Симметрон; ManufacturerPartNumber: PW 10-3-M; IPSPartNumber: Вилка "Симметрон" PW 10-3-M; ValueDescription: Разъем вилка val; NameRUS: Разъем вилка; HelpURL: https://www.belchip.by/product/?selected_product=32441; Value: val; NET1: *; NET2: *; NET3: *
footprint CONN_B3B-XH-A (JST)
pins: 1, 2, 3
text: ЦЕПЬ

## XP4
designator XP?, comment val
вилка 4 контакта; ValueDescription: Разъем вилка val; NameRUS: Разъем вилка; Manufacturer: *; ManufacturerPartNumber: *; HelpURL: *; IPSPartNumber: *; Value: val; NET1: *; NET2: *; NET3: *; NET4: *
footprint CONN_PLS-4(DS-1021-1x4) (2.54mm)
footprint CONN_0430450427(x4) (Molex)
footprint CONN_0436500427(x4) (Molex)
footprint CONN_039281043(x4) (Molex)
footprint CONN_B4B-XH-A (JST)
footprint CONN_PLS-4(SWD) (2.54mm)
footprint JST-B4B-XH-A
pins: 1, 2, 3, 4
text: ЦЕПЬ

## XP5
designator XP?, comment val
вилка 5 контактов; ValueDescription: Разъем вилка val; NameRUS: Разъем вилка; Manufacturer: *; ManufacturerPartNumber: *; HelpURL: *; IPSPartNumber: *; Value: val; NET5: *; NET1: *; NET2: *; NET3: *; NET4: *
footprint CONN_ECH350V-05P (Dinkle)
footprint CONN_0436500527(x5) (Molex)
footprint CONN_B5B-XH-A (JST)
pins: 1, 2, 3, 4, 5
text: ЦЕПЬ

## XP6
designator XP?
вилка 6 контактов; MF: *; MFPartNum: *; NET6: *; NET5: *; NET1: *; NET2: *; NET3: *; NET4: *
footprint PLS-6(DS-1021-1x6) (2.54mm)
pins: 1, 2, 3, 4, 5, 6
text: ЦЕПЬ

## XP8
designator XP?, comment val
вилка 8 контактов; ValueDescription: Разъем вилка val; NameRUS: Разъем вилка; IPSPartNumber: *; Value: val; NET8: *; NET7: *; NET6: *; NET5: *; NET1: *; NET2: *; NET3: *; NET4: *
pins: 1, 2, 3, 4, 5, 6, 7, 8
text: ЦЕПЬ

## XP9
designator XP?, comment val
вилка 9 контактов; ValueDescription: Разъем вилка val; NameRUS: Разъем вилка; IPSPartNumber: *; Value: val; NET9: *; NET8: *; NET7: *; NET6: *; NET5: *; NET1: *; NET2: *; NET3: *; NET4: *
footprint CONN_ECH350V-09P (Dinkle)
footprint CONN_B9B-XH-A (JST)
pins: 1, 2, 3, 4, 5, 6, 7, 8, 9
text: ЦЕПЬ

## XS2
designator XS?
розетка 2 контакта; ValueDescription: Разъем розетка *; NameRUS: Разъем розетка; Value: *; Manufacturer: *; ManufacturerPartNumber: *; HelpURL: *; IPSPartNumber: *; NET1: *; NET2: *
footprint 5031590200 (Molex)
pins: 1, 2
text: ЦЕПЬ

## XS3
designator X?, comment PW 10-3-M
вилка 3 контакта; Manufacturer: Симметрон; IPSPartNumber: Вилка "Симметрон" PW 10-3-M; ValueDescription: Разъем вилка PW 10-3-M; NameRUS: Разъем вилка; Value: PW 10-3-M; ManufacturerPartNumber: PW 10-3-M; HelpURL: https://www.belchip.by/product/?selected_product=32441; NET1: *; NET2: *; NET3: *
footprint PW-3
pins: 1, 2, 3
text: ЦЕПЬ

## XS4
designator XS?
Розетка 4 контакта; MF: *; MFPartNum: *; Value: *; HelpURL: *; NET1: *; NET2: *; NET3: *; NET4: *
footprint CONN_DG142V-5.08-04P (Degson)
pins: 1, 2, 3, 4
text: ЦЕПЬ

## XS5
designator XS?
розетка 5 контактов; ValueDescription: Разъем розетка *; NameRUS: Разъем розетка; Value: *; Manufacturer: *; ManufacturerPartNumber: *; HelpURL: *; IPSPartNumber: *; NET5: *; NET1: *; NET2: *; NET3: *; NET4: *
footprint CONN_USB2_B_Hor(X5) (Wurth Elektronik)
footprint CONN_USB2_B_Ver(X5) (Wurth Elektronik)
pins: 1, 2, 3, 4, 5
text: ЦЕПЬ

## XS6
designator XS?
розетка 6 контактов; ValueDescription: Разъем розетка *; NameRUS: Разъем розетка; Value: *; Manufacturer: *; ManufacturerPartNumber: *; HelpURL: *; IPSPartNumber: *; NET6: *; NET5: *; NET1: *; NET2: *; NET3: *; NET4: *
footprint RJ25 Connfly
pins: 1, 2, 3, 4, 5, 6
text: ЦЕПЬ

## XS9
designator XS?
розетка 9 контактов; ValueDescription: Разъем розетка *; NameRUS: Разъем розетка; Value: *; Manufacturer: *; ManufacturerPartNumber: *; HelpURL: *; IPSPartNumber: *; NET6: *; NET5: *; NET1: *; NET2: *; NET3: *; NET4: *; NET7: *; NET8: *; NET9: *
footprint 634008149721 (Modular Jack Horizontal Shielded SMT with EMI Panel Finger 8P8C)
pins: 1, 2, 3, 4, 5, 6, 7, 8, 9
text: ЦЕПЬ

## XS26
designator XS?
розетка 26 контактов; ValueDescription: Разъем розетка *; NameRUS: Разъем розетка; Value: *; Manufacturer: *; ManufacturerPartNumber: *; HelpURL: *; IPSPartNumber: *; NET26: *; NET25: *; NET24: *; NET23: *; NET22: *; NET21: *; NET20: *; NET19: *; NET18: *; NET17: *; NET16: *; NET15: *; NET14: *; NET13: *; NET12: *; NET11: *; NET10: *; NET6: *; NET5: *; NET1: *; NET2: *; NET3: *; NET4: *; NET7: *; NET8: *; NET9: *
footprint MPSC-01-24-01-7.70-01-L-V
pins: 1, 2, 3, 4, 5, 6, 7, 8, 9, 10, 11, 12, 13, 14, 15, 16, 17, 18, 19, 20, 21, 22, 23, 24, 25, 26
text: ЦЕПЬ

## XS_12
designator XS?
Розетка 12 контактов; NET12: *; NET11: *; NET10: *; NET9: *; NET8: *; NET7: *; NET6: *; NET5: *; NET4: *; NET3: *; NET2: *; NET1: *
footprint RJ45 PULSE JP SERIES
pins: 1, 2, 3, 4, 5, 6, 7, 8, 9, 10, 11, 12
text: ЦЕПЬ

## ZQ_2Pin
designator ZQ?
Кварцевый резонатор; Value: *; MF: *; MFPartNum: *; Package: *; HelpURL: *
footprint ZQ_HC-49SMD (Quartz)
footprint ZQ_DT26-SMD (Quartz)
footprint CRYSTAL DT-26
pins: 1, 2

## ZQ_4Pin
designator ZQ?
Кварцевый резонатор; Value: *; MF: *; MFPartNum: *; Package: *; HelpURL: *
footprint ZQ_NX2016SA (NDK)
footprint ZQ_NX2520SA (NDK)
footprint OSCC-W2.5L2.0
pins: 1, 2, 3

## ZQ_OSC_4pin
designator ZQ?
Кварцевый генератор; Package: *; Value: *; MF: *; MFPartNum: *; HelpURL: *
footprint OSCS-W5.0L7.0
pins: 1 EN, 2 GND, 3 OUT (oc), 4 VCC (power)